# EAGLE library part FRDM-K22F (library firefly)
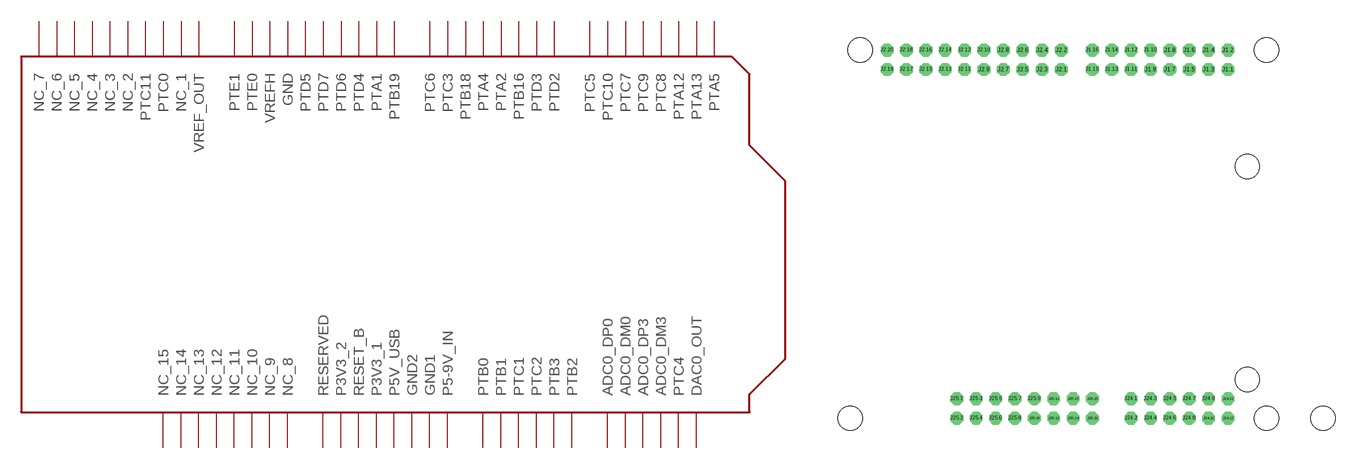
[diagram p29: symbol with the pads of FRDM-K22F; footprint FRDM-K22F]

Designator prefix -

## FRDM-K22F  [FRDM-K22F]
J1.1  PTA5
J1.2  PTD2
J1.3  PTA13
J1.4  PTD3
J1.5  PTA12
J1.6  PTB16
J1.7  PTC8
J1.8  PTA2
J1.9  PTC9
J1.10  PTA4
J1.11  PTC7
J1.12  PTB18
J1.13  PTC10
J1.14  PTC3
J1.15  PTC5
J1.16  PTC6
J2.1  VREF_OUT
J2.2  PTB19
J2.3  NC_1
J2.4  PTA1
J2.5  PTC0
J2.6  PTD4
J2.7  PTC11
J2.8  PTD6
J2.9  NC_2
J2.10  PTD7
J2.11  NC_3
J2.12  PTD5
J2.13  NC_4
J2.14  GND  pwr
J2.15  NC_5
J2.16  VREFH
J2.17  NC_6
J2.18  PTE0
J2.19  NC_7
J2.20  PTE1
J24.1  ADC0_DP0
J24.2  PTB0
J24.3  ADC0_DM0
J24.4  PTB1
J24.5  ADC0_DP3
J24.6  PTC1
J24.7  ADC0_DM3
J24.8  PTC2
J24.9  PTC4
J24.10  PTB3
J24.11  DAC0_OUT
J24.12  PTB2
J25.1  NC_15
J25.2  RESERVED  nc
J25.3  NC_14
J25.4  P3V3_2  out
J25.5  NC_13
J25.6  RESET_B
J25.7  NC_12
J25.8  P3V3_1  pwr
J25.9  NC_11
J25.10  P5V_USB  pwr
J25.11  NC_10
J25.12  GND2  pwr
J25.13  NC_9
J25.14  GND1  pwr
J25.15  NC_8
J25.16  P5-9V_IN  pwr

## Footprint FRDM-K22F (pad centres in mm)
drill 1 pad 1.676 octagon: J1.1 63.5,48.26; J1.2 63.5,50.8; J1.3 60.96,48.26; J1.4 60.96,50.8; J1.5 58.42,48.26; J1.6 58.42,50.8; J1.7 55.88,48.26; J1.8 55.88,50.8; J1.9 53.34,48.26; J1.10 53.34,50.8; J1.11 50.8,48.26; J1.12 50.8,50.8; J1.13 48.26,48.26; J1.14 48.26,50.8; J1.15 45.72,48.26; J1.16 45.72,50.8; J2.1 41.656,48.26; J2.2 41.656,50.8; J2.3 39.116,48.26; J2.4 39.116,50.8; J2.5 36.576,48.26; J2.6 36.576,50.8; J2.7 34.036,48.26; J2.8 34.036,50.8; J2.9 31.496,48.26; J2.10 31.496,50.8; J2.11 28.956,48.26; J2.12 28.956,50.8; J2.13 26.416,48.26; J2.14 26.416,50.8; J2.15 23.876,48.26; J2.16 23.876,50.8; J2.17 21.336,48.26; J2.18 21.336,50.8; J2.19 18.796,48.26; J2.20 18.796,50.8; J24.1 50.8,5.08; J24.2 50.8,2.54; J24.3 53.34,5.08; J24.4 53.34,2.54; J24.5 55.88,5.08; J24.6 55.88,2.54; J24.7 58.42,5.08; J24.8 58.42,2.54; J24.9 60.96,5.08; J24.10 60.96,2.54; J24.11 63.5,5.08; J24.12 63.5,2.54; J25.1 27.94,5.08; J25.2 27.94,2.54; J25.3 30.48,5.08; J25.4 30.48,2.54; J25.5 33.02,5.08; J25.6 33.02,2.54; J25.7 35.56,5.08; J25.8 35.56,2.54; J25.9 38.1,5.08; J25.10 38.1,2.54; J25.11 40.64,5.08; J25.12 40.64,2.54; J25.13 43.18,5.08; J25.14 43.18,2.54; J25.15 45.72,5.08; J25.16 45.72,2.54
hole 3.2 at 15.24,50.8
hole 3.2 at 66.04,35.56
hole 3.2 at 13.97,2.54
hole 3.2 at 66.04,7.62
hole 3.2 at 68.58,50.8
hole 3.2 at 68.58,2.54
hole 3.2 at 75.95,2.54